# Altium footprint library team6.PcbLib: 16 footprints
Each footprint in its own frame and in the unit in brackets; x right, y up, seen from the top. Pads: shape width x height; smd on the part's side, far side on the other; paste and mask are expansions set on the pad; w line width, h text height; cw(c..) or ccw(c..) is an arc to the next point about the centre after c.
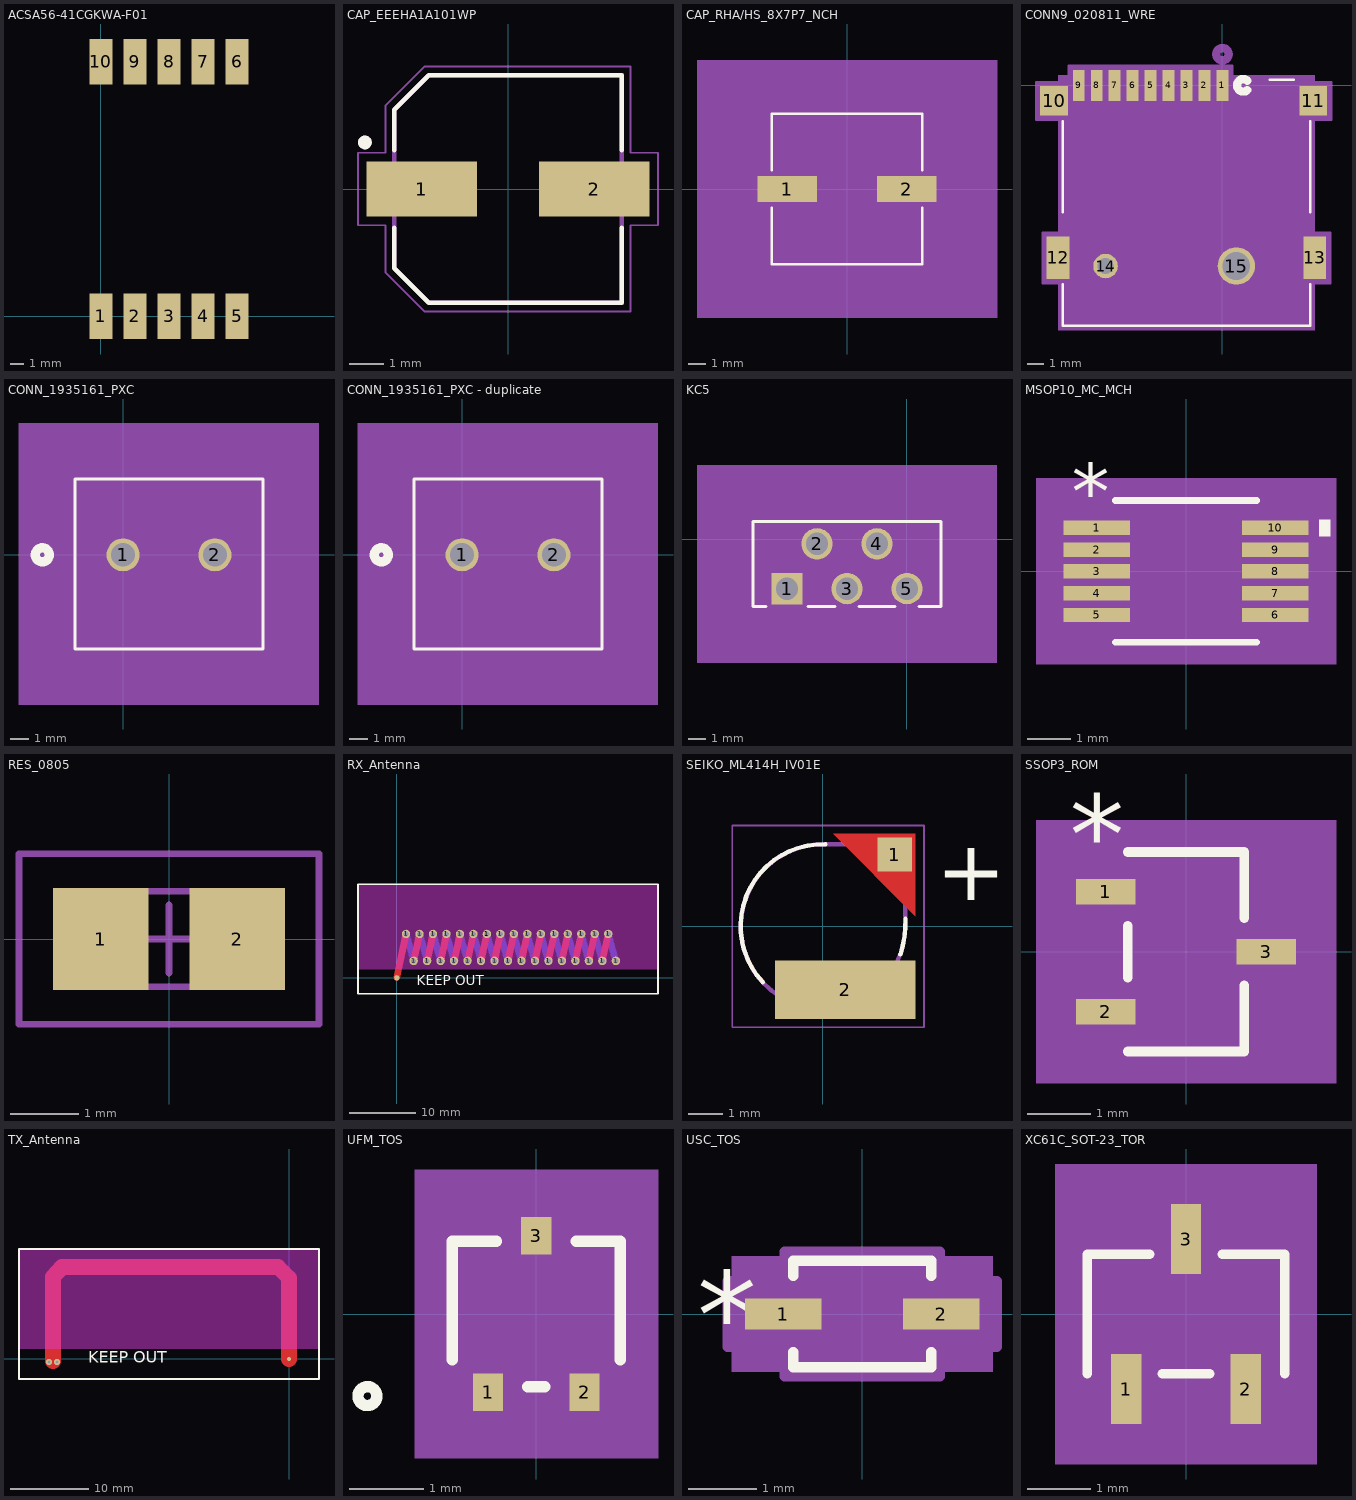
[diagram p0: the footprints below, top view; thin cyan lines are the x and y axes]

## ACSA56-41CGKWA-F01 [mm]
pads (10):
  rect 1.7x3.4 smd: 1(0,0) 2(2.54,0) 3(5.08,0) 4(7.62,0) 5(10.16,0) 6(10.16,19) 7(7.62,19) 8(5.08,19) 9(2.54,19) 10(0,19)
3D body "ACSA56-41CGKWA-F01.step": height 3.8, standoff 0, extent -1.12,0.025 11.28,19.025

## CAP_EEEHA1A101WP [mm]
pads (2):
  rect 3.2x1.6 smd: 1(-2.5,0) 2(2.5,0)
Top Overlay:
  circle w0.2: c-4.15,1.35 r0.1
  lines w0.127: -3.3,-1.12 -3.3,-2.3 -2.3,-3.3 3.3,-3.3 3.3,-1.12 ; -3.3,1.12 -3.3,2.3 -2.3,3.3 3.3,3.3 3.3,1.12
Mechanical 13:
  circle w0.2: c-4.15,1.35 r0.1
  lines w0.127: -3.3,-2.3 -3.3,2.3 -2.3,3.3 3.3,3.3 3.3,-3.3 -2.3,-3.3 -3.3,-2.3
Mechanical 15:
  lines w0.05: -4.35,-1.05 -3.55,-1.05 -3.55,-2.425 -2.425,-3.55 3.55,-3.55 3.55,-1.05 4.35,-1.05 4.35,1.05 3.55,1.05 3.55,3.55 -2.425,3.55 -3.55,2.425 -3.55,1.05 -4.35,1.05 -4.35,-1.05
3D body "step_temp.STEP": height 5.8, standoff 0, extent -3.65,-3.3 3.65,3.3

## CAP_RHA/HS_8X7P7_NCH [mil]
pads (2):
  rect 134x59 smd paste+0 mask+0: 1(-134,0) 2(134,0)
Top Overlay:
  lines w6: -168.5,-42.6 -168.5,-168.5 168.5,-168.5 168.5,-42.6 ; -168.5,42.6 -168.5,168.5 168.5,168.5 168.5,42.6
Mechanical 5:
  region: 336,-288.5 -336,-288.5 -336,288.5 336,288.5
Mechanical 13:
  lines w1: -163.5,-81.75 -81.75,-163.5 ; -163.5,81.75 -81.75,163.5 ; -163.5,-163.5 163.5,-163.5 163.5,163.5 -163.5,163.5 -163.5,-163.5
Mechanical 15:
  region: -173.5,-39.5 -211,-39.5 -211,39.5 -173.5,39.5 -173.5,173.5 173.5,173.5 173.5,39.5 211,39.5 211,-39.5 173.5,-39.5 173.5,-173.5 -173.5,-173.5
  lines w6: -211,-39.5 -211,39.5 -173.5,39.5 -173.5,173.5 173.5,173.5 173.5,39.5 211,39.5 211,-39.5 173.5,-39.5 173.5,-173.5 -173.5,-173.5 -173.5,-39.5 -211,-39.5
3D body: height 10, standoff 0, extent 0,0 10,10

## CONN9_020811_WRE [mil]
pads (15):
  rect 28x75 smd paste+0 mask+0: 1(0,0) 2(-43.31,0) 3(-86.61,0) 4(-129.92,0) 5(-173.23,0) 6(-216.54,0) 7(-259.84,0) 8(-303.15,0) 9(-346.46,0)
  rect 67x71 smd: 10(-405.51,-37.48) 11(218.5,-37.48)
  rect 55x102 smd: 12(-395.67,-415.43) 13(222.44,-415.43)
  round 59 hole 39: 14(-281.5,-435.12)
  round 90 hole 66.93: 15(33.47,-435.12)
Top Overlay:
  lines w6: -385.11,-479.53 -385.11,-579.26 211.89,-579.26 211.89,-479.53 ; -385.11,-305.11 -385.11,-86.08 ; 113.71,13.74 171.9,13.74 ; 211.89,-305.11 211.89,-86.08
  lines w20: 59.78,-11.37 cw(c50,0) 59.78,11.37
Bottom Overlay:
  circle w20: c50,0 r15
Mechanical 5:
  region: -395.11,23.74 221.89,23.74 221.89,-589.26 -395.11,-589.26
Mechanical 13:
  circle w20: c0,75 r15
  lines w1: -380.11,-574.26 -380.11,8.74 206.89,8.74 206.89,-574.26 -380.11,-574.26
Mechanical 15:
  region: 216.89,-354.43 216.89,-82.98 262,-82.98 262,8.02 216.89,8.02 216.89,18.74 24,18.74 24,47.5 -370.46,47.5 -370.46,18.74 -390.11,18.74 -390.11,8.02 -449.01,8.02 -449.01,-82.98 -390.11,-82.98 -390.11,-354.43 -433.17,-354.43 -433.17,-476.43 -390.11,-476.43 -390.11,-584.26 216.89,-584.26 216.89,-476.43 259.94,-476.43 259.94,-354.43
  lines w6: -449.01,-82.98 -390.11,-82.98 -390.11,-354.43 -433.17,-354.43 -433.17,-476.43 -390.11,-476.43 -390.11,-584.26 216.89,-584.26 216.89,-476.43 259.94,-476.43 259.94,-354.43 216.89,-354.43 216.89,-82.98 262,-82.98 262,8.02 216.89,8.02 216.89,18.74 24,18.74 24,47.5 -370.46,47.5 -370.46,18.74 -390.11,18.74 -390.11,8.02 -449.01,8.02 -449.01,-82.98
3D body: height 10, standoff 0, extent 0,0 10,10

## CONN_1935161_PXC [mil]
pads (2):
  round 71 hole 51 mask+0: 1(0,0) 2(196.85,0)
Top Overlay:
  circle w20: c-173.43,0 r15
  lines w6: -103.43,-201.85 300.28,-201.85 300.28,162.48 -103.43,162.48 -103.43,-201.85
Bottom Overlay:
  circle w20: c-173.43,0 r15
Mechanical 5:
  region: -223.43,282.48 420.28,282.48 420.28,-321.85 -223.43,-321.85
Mechanical 13:
  circle w20: c0,75 r15
  lines w1: -98.43,-196.85 295.28,-196.85 295.28,157.48 -98.43,157.48 -98.43,-196.85
Mechanical 15:
  region: 305.28,167.48 -108.43,167.48 -108.43,-206.85 305.28,-206.85
  lines w6: -108.43,-206.85 -108.43,167.48 305.28,167.48 305.28,-206.85 -108.43,-206.85
3D body: height 10, standoff 0, extent 0,0 10,10

## CONN_1935161_PXC - duplicate [mil]
pads (2):
  round 71 hole 51 mask+0: 1(0,0) 2(196.85,0)
Top Overlay:
  circle w20: c-173.43,0 r15
  lines w6: -103.43,-201.85 300.28,-201.85 300.28,162.48 -103.43,162.48 -103.43,-201.85
Bottom Overlay:
  circle w20: c-173.43,0 r15
Mechanical 5:
  region: -223.43,282.48 420.28,282.48 420.28,-321.85 -223.43,-321.85
Mechanical 13:
  circle w20: c0,75 r15
  lines w1: -98.43,-196.85 295.28,-196.85 295.28,157.48 -98.43,157.48 -98.43,-196.85
Mechanical 15:
  region: 305.28,167.48 -108.43,167.48 -108.43,-206.85 305.28,-206.85
  lines w6: -108.43,-206.85 -108.43,167.48 305.28,167.48 305.28,-206.85 -108.43,-206.85
3D body: height 10, standoff 0, extent 0,0 10,10

## KC5 [mil]
pads (5):
  rect 70x70 hole 50: 1(-268,-110)
  round 70 hole 50: 2(-201,-10) 3(-134,-110) 4(-67,-10) 5(0,-110)
Top Overlay:
  lines w6: -315.11,-150 -344,-150 -344,40 76,40 76,-150 26.71,-150 ; -220.89,-150 -160.71,-150 ; -107.29,-150 -26.71,-150
Mechanical 5:
  region: -469,165 201,165 201,-275 -469,-275
Mechanical 13:
  lines w1: -344,-150 -344,40 76,40 76,-150 -344,-150
Mechanical 15:
  region: 86,50 -354,50 -354,-160 86,-160
  lines w6: -354,-160 86,-160 86,50 -354,50 -354,-160
3D body "KC5.step": height 650, standoff -260, extent -75.98,-40 344.02,150

## MSOP10_MC_MCH [mil]
pads (10):
  rect 60x13 smd paste+0 mask+0: 1(-80.5,39.37) 2(-80.5,19.68) 3(-80.5,0) 4(-80.5,-19.68) 5(-80.5,-39.37) 6(80.5,-39.37) 7(80.5,-19.68) 8(80.5,0) 9(80.5,19.68) 10(80.5,39.37)
Top Overlay:
  region: 120.5,46.87 130.5,46.87 130.5,31.87 120.5,31.87
  lines w6: -64,-64 64,-64 ; -64,64 64,64
  text "*" at -103,47.37 h50
Mechanical 5:
  region: 135.5,-84 -135.5,-84 -135.5,84 135.5,84
Mechanical 13:
  lines w0: -12,59 ccw(c0,59) 12,59
  lines w1: -96.5,-45.87 -96.5,-32.87 -59,-32.87 -59,-45.87 -96.5,-45.87 ; -96.5,-26.18 -96.5,-13.19 -59,-13.19 -59,-26.18 -96.5,-26.18 ; -96.5,-6.5 -96.5,6.5 -59,6.5 -59,-6.5 -96.5,-6.5 ; -96.5,13.19 -96.5,26.18 -59,26.18 -59,13.19 -96.5,13.19 ; -96.5,32.87 -96.5,45.87 -59,45.87 -59,32.87 -96.5,32.87 ; -59,-59 59,-59 59,59 -59,59 -59,-59 ; 59,-45.87 59,-32.87 96.5,-32.87 96.5,-45.87 59,-45.87 ; 59,-26.18 59,-13.19 96.5,-13.19 96.5,-26.18 59,-26.18 ; 59,-6.5 59,6.5 96.5,6.5 96.5,-6.5 59,-6.5 ; 59,13.19 59,26.18 96.5,26.18 96.5,13.19 59,13.19 ; 59,32.87 59,45.87 96.5,45.87 96.5,32.87 59,32.87
  text "*" at -56.5,6 h50
Mechanical 15:
  region: -69,-55.87 -120.5,-55.87 -120.5,55.87 -69,55.87 -69,69 69,69 69,55.87 120.5,55.87 120.5,-55.87 69,-55.87 69,-69 -69,-69
  lines w6: -120.5,-55.87 -120.5,55.87 -69,55.87 -69,69 69,69 69,55.87 120.5,55.87 120.5,-55.87 69,-55.87 69,-69 -69,-69 -69,-55.87 -120.5,-55.87
3D body "MSOP10_MC_MCH.step": height 43.11, standoff 0, extent -96.5,-59.02 96.5,59.02

## RES_0805 [mm]
pads (2):
  rect 1.4x1.5 smd: 1(-1,0) 2(1,0)
Mechanical 13:
  lines w0.1: -1.075,-0.7 -1.075,0.7 1.075,0.7 1.075,-0.7 -1.075,-0.7
Mechanical 15:
  lines w0.1: -0.5,0 0.5,0 ; 0,-0.5 0,0.5 ; -2.2,-1.25 -2.2,1.25 2.2,1.25 2.2,-1.25 -2.2,-1.25
3D body: height 0.7, standoff 0, extent -1.075,-0.7 1.075,0.7

## RX_Antenna [mil]
pads (34):
  round 30 smd mask+19: 0(0,0)
  round 50 hole 30 mask+9: 1(55,260) 1(100,100) 1(135,260) 1(180,100) 1(215,260) 1(260,100) 1(295,260) 1(340,100) 1(375,260) 1(420,100) 1(455,260) 1(500,100) 1(534.5,259.5) 1(535,260) 1(580,100) 1(615,260) 1(660,100) 1(695,260) 1(740,100) 1(775,260) 1(820,100) 1(855,260) 1(900,100) 1(935,260) 1(980,100) 1(1015,260) 1(1060,100) 1(1095,260) 1(1140,100) 1(1175,260) 1(1220,100) 1(1255,260) 1(1300,100)
Top Layer:
  lines w40: 0,0 55,260 ; 100,100 135,260 ; 180,100 215,260 ; 260,100 295,260 ; 340,100 375,260 ; 420,100 455,260 ; 500,100 535,260 ; 580,100 615,260 ; 660,100 695,260 ; 740,100 775,260 ; 820,100 855,260 ; 900,100 935,260 ; 980,100 1015,260 ; 1060,100 1095,260 ; 1140,100 1175,260 ; 1220,100 1255,260
Bottom Layer:
  lines w40: 55,260 100,100 ; 135,260 180,100 ; 215,260 260,100 ; 295,260 340,100 ; 375,260 420,100 ; 455,260 500,100 ; 535,260 580,100 ; 615,260 660,100 ; 695,260 740,100 ; 775,260 820,100 ; 855,260 900,100 ; 935,260 980,100 ; 1015,260 1060,100 ; 1095,260 1140,100 ; 1175,260 1220,100 ; 1255,260 1300,100
Top Overlay:
  lines w10: 1545,555 -230,555 -230,-95 1550,-95 1550,555
  text "KEEP OUT" at 120,-63.89 h100
Keep-Out Layer:
  rectangle: -225,50 1545,550

## SEIKO_ML414H_IV01E [mm]
pads (2):
  rect 1x1 smd paste-1 mask+0: 1(2.1,2.1)
  rect 4.1x1.7 smd: 2(0.65,-1.85)
Top Layer:
  region: 2.7,0.3 0.3,2.7 2.7,2.7
Top Overlay:
  lines w0.127: -1.76,-1.629 cw(c-0.008,0.005) 0.075,2.4 ; 2.263,-0.822 ccw(c-0.634,0.119) 2.41,0.225
  text "+" at 3.305,0.763 h1.78
Top Paste:
  region: 2.7,0.3 0.3,2.7 2.7,2.7
Top Solder:
  region: 2.8,0 0,2.8 2.8,2.8
Mechanical 13:
  lines w0.127: 0,2.4 ccw(c0,0) 2.4,0 2.4,2.4 0,2.4
Mechanical 15:
  lines w0.05: -2.65,-2.95 2.95,-2.95 2.95,2.95 -2.65,2.95 -2.65,-2.95

## SSOP3_ROM [mil]
pads (3):
  rect 37.5x16 smd paste+0 mask+0: 1(-50.25,37.5) 2(-50.25,-37.5) 3(50.25,0)
Top Overlay:
  lines w6: -36.5,-62.5 36.5,-62.5 36.5,-21.1 ; -36.5,-16.4 -36.5,16.4 ; -36.5,62.5 36.5,62.5 36.5,21.1
  text "*" at -72.75,48.5 h50
Mechanical 5:
  region: 94,-82.5 -94,-82.5 -94,82.5 94,82.5
Mechanical 13:
  lines w0: -12,57.5 ccw(c0,57.5) 12,57.5
  lines w1: -55,-45.5 -55,-29.5 -31.5,-29.5 -31.5,-45.5 -55,-45.5 ; -55,29.5 -55,45.5 -31.5,45.5 -31.5,29.5 -55,29.5 ; -31.5,-57.5 31.5,-57.5 31.5,57.5 -31.5,57.5 -31.5,-57.5 ; 31.5,-8 31.5,8 55,8 55,-8 31.5,-8
  text "*" at -34,5.5 h50
Mechanical 15:
  region: 41.5,-67.5 -41.5,-67.5 -41.5,-52.5 -75,-52.5 -75,52.5 -41.5,52.5 -41.5,67.5 41.5,67.5 41.5,15 75,15 75,-15 41.5,-15
  lines w6: -75,-52.5 -41.5,-52.5 -41.5,-67.5 41.5,-67.5 41.5,-15 75,-15 75,15 41.5,15 41.5,67.5 -41.5,67.5 -41.5,52.5 -75,52.5 -75,-52.5
3D body "SSOP3_ROM.step": height 49.09, standoff 0, extent -55,-57.48 55,57.48

## TX_Antenna [mil]
pads (3):
  round 19.68 smd: 1(0,0)
  round 30 hole 15 mask+19: 2(-1200,-15) 2(-1160,-15)
Top Layer:
  lines w80: -1180,-10 -1180,410 -1135,460 -55,460 0,405 0,0
Top Overlay:
  lines w10: -1350,-100 150,-100 150,550 -1350,550 -1350,-100
  text "KEEP OUT" at -1005,-38.89 h100
Keep-Out Layer:
  rectangle: -1350,50 150,550

## UFM_TOS [mil]
pads (3):
  rect 16x20 smd paste+0 mask+0: 1(-25.59,-41.5) 2(25.59,-41.5) 3(0,41.5)
Top Overlay:
  circle w6: c-89.5,-43.5 r5
  lines w6: -44.5,-24.25 -44.5,38.5 -21.1,38.5 ; -4.49,-38.5 4.49,-38.5 ; 21.1,38.5 44.5,38.5 44.5,-24.25
Mechanical 5:
  region: -64.5,76.5 64.5,76.5 64.5,-76.5 -64.5,-76.5
Mechanical 13:
  circle w0: c-29.5,-23.5 r5
  lines w1: -39.5,-33.5 -39.5,33.5 39.5,33.5 39.5,-33.5 -39.5,-33.5 ; -33.59,-43.5 -17.59,-43.5 -17.59,-33.5 -33.59,-33.5 -33.59,-43.5 ; -8,33.5 -8,43.5 8,43.5 8,33.5 -8,33.5 ; 17.59,-43.5 33.59,-43.5 33.59,-33.5 17.59,-33.5 17.59,-43.5
Mechanical 15:
  region: 39.5,-33.5 -39.5,-33.5 -39.5,33.5 39.5,33.5
  region: -49.5,-43.5 -49.5,43.5 -18,43.5 -18,61.5 18,61.5 18,43.5 49.5,43.5 49.5,-43.5 43.59,-43.5 43.59,-61.5 -43.59,-61.5 -43.59,-43.5
  lines w6: -49.5,-43.5 -43.59,-43.5 -43.59,-61.5 43.59,-61.5 43.59,-43.5 49.5,-43.5 49.5,43.5 18,43.5 18,61.5 -18,61.5 -18,43.5 -49.5,43.5 -49.5,-43.5
3D body: height 10, standoff 0, extent 0,0 10,10

## USC_TOS [mm]
pads (2):
  rect 1.111x0.451 smd paste+0 mask+0: 1(-1.15,0) 2(1.15,0)
Top Overlay:
  lines w0.152: -1.002,-0.558 -1.002,-0.777 1.002,-0.777 1.002,-0.558 ; -1.002,0.558 -1.002,0.777 1.002,0.777 1.002,0.558
  text "*" at -2.404,-0.635 h1.27
Mechanical 5:
  region: 1.896,-0.84 -1.896,-0.84 -1.896,0.84 1.896,0.84
Mechanical 13:
  lines w0.025: -0.875,-0.325 -0.55,-0.65 ; -0.875,0.325 -0.55,0.65 ; -1.35,-0.2 -1.35,0.2 -0.875,0.2 -0.875,-0.2 -1.35,-0.2 ; -0.875,-0.65 0.875,-0.65 0.875,0.65 -0.875,0.65 -0.875,-0.65 ; 0.875,-0.2 0.875,0.2 1.35,0.2 1.35,-0.2 0.875,-0.2
  text "*" at -0.938,-0.635 h1.27
Mechanical 15:
  region: -1.129,-0.479 -1.96,-0.479 -1.96,0.479 -1.129,0.479 -1.129,0.904 1.129,0.904 1.129,0.479 1.96,0.479 1.96,-0.479 1.129,-0.479 1.129,-0.904 -1.129,-0.904
  lines w0.152: -1.96,-0.479 -1.96,0.479 -1.129,0.479 -1.129,0.904 1.129,0.904 1.129,0.479 1.96,0.479 1.96,-0.479 1.129,-0.479 1.129,-0.904 -1.129,-0.904 -1.129,-0.479 -1.96,-0.479
3D body: height 0.25, standoff 0, extent 0,0 0.254,0.254

## XC61C_SOT-23_TOR [mil]
pads (3):
  rect 19x44 smd paste+0 mask+0: 1(-37.4,-47) 2(37.4,-47) 3(0,47)
Top Overlay:
  lines w6: -62,-37.5 -62,37.5 -22.6,37.5 ; -14.8,-37.5 14.8,-37.5 ; 22.6,37.5 62,37.5 62,-37.5
Mechanical 5:
  region: -82,94 82,94 82,-94 -82,-94
Mechanical 13:
  lines w1: -57,-32.5 -57,32.5 57,32.5 57,-32.5 -57,-32.5 ; -45.9,-55 -28.9,-55 -28.9,-32.5 -45.9,-32.5 -45.9,-55 ; -8.5,32.5 -8.5,55 8.5,55 8.5,32.5 -8.5,32.5 ; 28.9,-55 45.9,-55 45.9,-32.5 28.9,-32.5 28.9,-55
Mechanical 15:
  region: -67,-42.5 -67,42.5 -18.5,42.5 -18.5,79 18.5,79 18.5,42.5 67,42.5 67,-42.5 55.9,-42.5 55.9,-79 -55.9,-79 -55.9,-42.5
  lines w6: -67,-42.5 -55.9,-42.5 -55.9,-79 55.9,-79 55.9,-42.5 67,-42.5 67,42.5 18.5,42.5 18.5,79 -18.5,79 -18.5,42.5 -67,42.5 -67,-42.5
3D body "XC61C_SOT-23_TOR.step": height 51.1, standoff 0, extent -57.01,-55 57.01,55